# Altium schematic symbol library SW-SPST-2.SchLib: 1 symbol
Pins are listed as number, name and electrical type; pins without a type are passive.

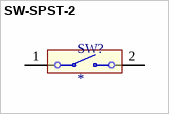
[diagram p0: symbol SW-SPST-2]

## SW-SPST-2
designator SW?
pins: 1, 2